# Altium integrated library U254-051T-4BH83-F1S.IntLib: 1 symbol
Pins are listed as number, name and electrical type; pins without a type are passive.

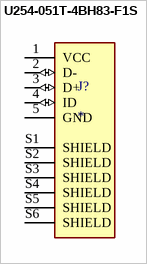
[diagram p0: symbol U254-051T-4BH83-F1S]

## U254-051T-4BH83-F1S
designator J?
USB - Micro B Female USB 2 5 SMD USB Connectors RoHS; MF: XKB Industrial Precision; MP: U254-051T-4BH83-F1S; Check_prices: https://www.snapeda.com/parts/U254-051T-4BH83-F1S/XKB%20Industrial%20Precision/view-part/4967971/?ref=eda; SnapEDA_Link: https://www.snapeda.com/parts/U254-051T-4BH83-F1S/XKB%20Industrial%20Precision/view-part/4967971/?ref=snap; Availability: Unavailable; Value: *; Price: None; Package: Package
footprint XKB_U254-051T-4BH83-F1S
pins: 1 VCC (power), 2 D- (io), 3 D+ (io), 4 ID (io), 5 GND (power), S1 SHIELD, S2 SHIELD, S3 SHIELD, S4 SHIELD, S5 SHIELD, S6 SHIELD